# Altium footprint library LC-SOIC-16_300mil .PcbLib: 1 footprints
Each footprint in its own frame and in the unit in brackets; x right, y up, seen from the top. Pads: shape width x height; smd on the part's side, far side on the other; paste and mask are expansions set on the pad; w line width, h text height; cw(c..) or ccw(c..) is an arc to the next point about the centre after c.
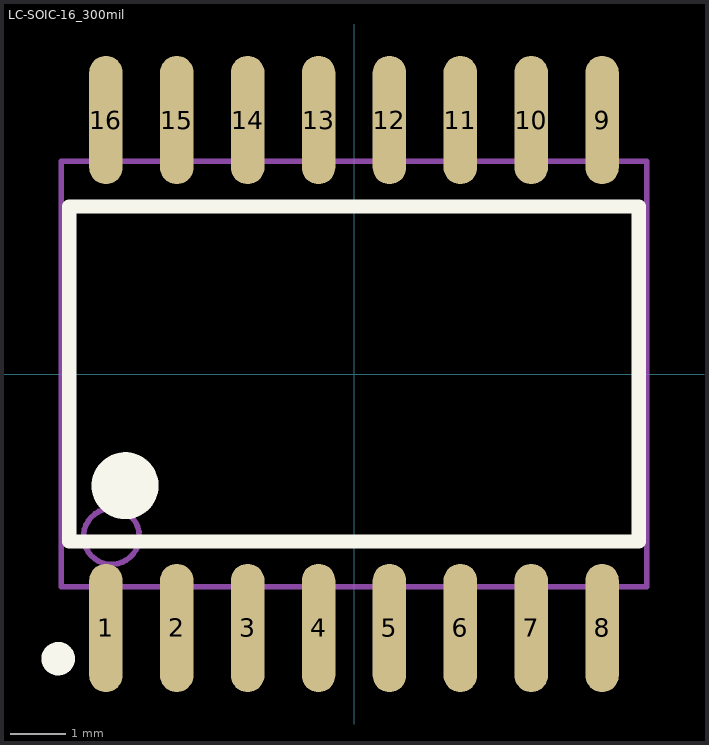
[diagram p0: the footprint, top view; thin cyan lines are the x and y axes]

## LC-SOIC-16_300mil [mm]
pads (16):
  oval 0.6x2.3 smd: 1(-4.445,-4.55) 2(-3.175,-4.55) 3(-1.905,-4.55) 4(-0.635,-4.55) 5(0.635,-4.55) 6(1.905,-4.55) 7(3.175,-4.55) 8(4.445,-4.55) 9(4.445,4.55) 10(3.175,4.55) 11(1.905,4.55) 12(0.635,4.55) 13(-0.635,4.55) 14(-1.905,4.55) 15(-3.175,4.55) 16(-4.445,4.55)
Top Overlay:
  circle w0.3: c-5.3,-5.1 r0.15
  circle w0.6: c-4.1,-2 r0.3
  lines w0.254: -5.1,-3 5.1,-3 5.1,3 -5.1,3 -5.1,-3
Mechanical 13:
  circle w0.1: c-4.345,-2.91 r0.5
  lines w0.1: -5.245,-3.81 5.245,-3.81 5.245,3.81 -5.245,3.81 -5.245,-3.81